# Altium schematic symbol library CON_DIVERSOS.SchLib: 77 symbols (part 4 of 4)
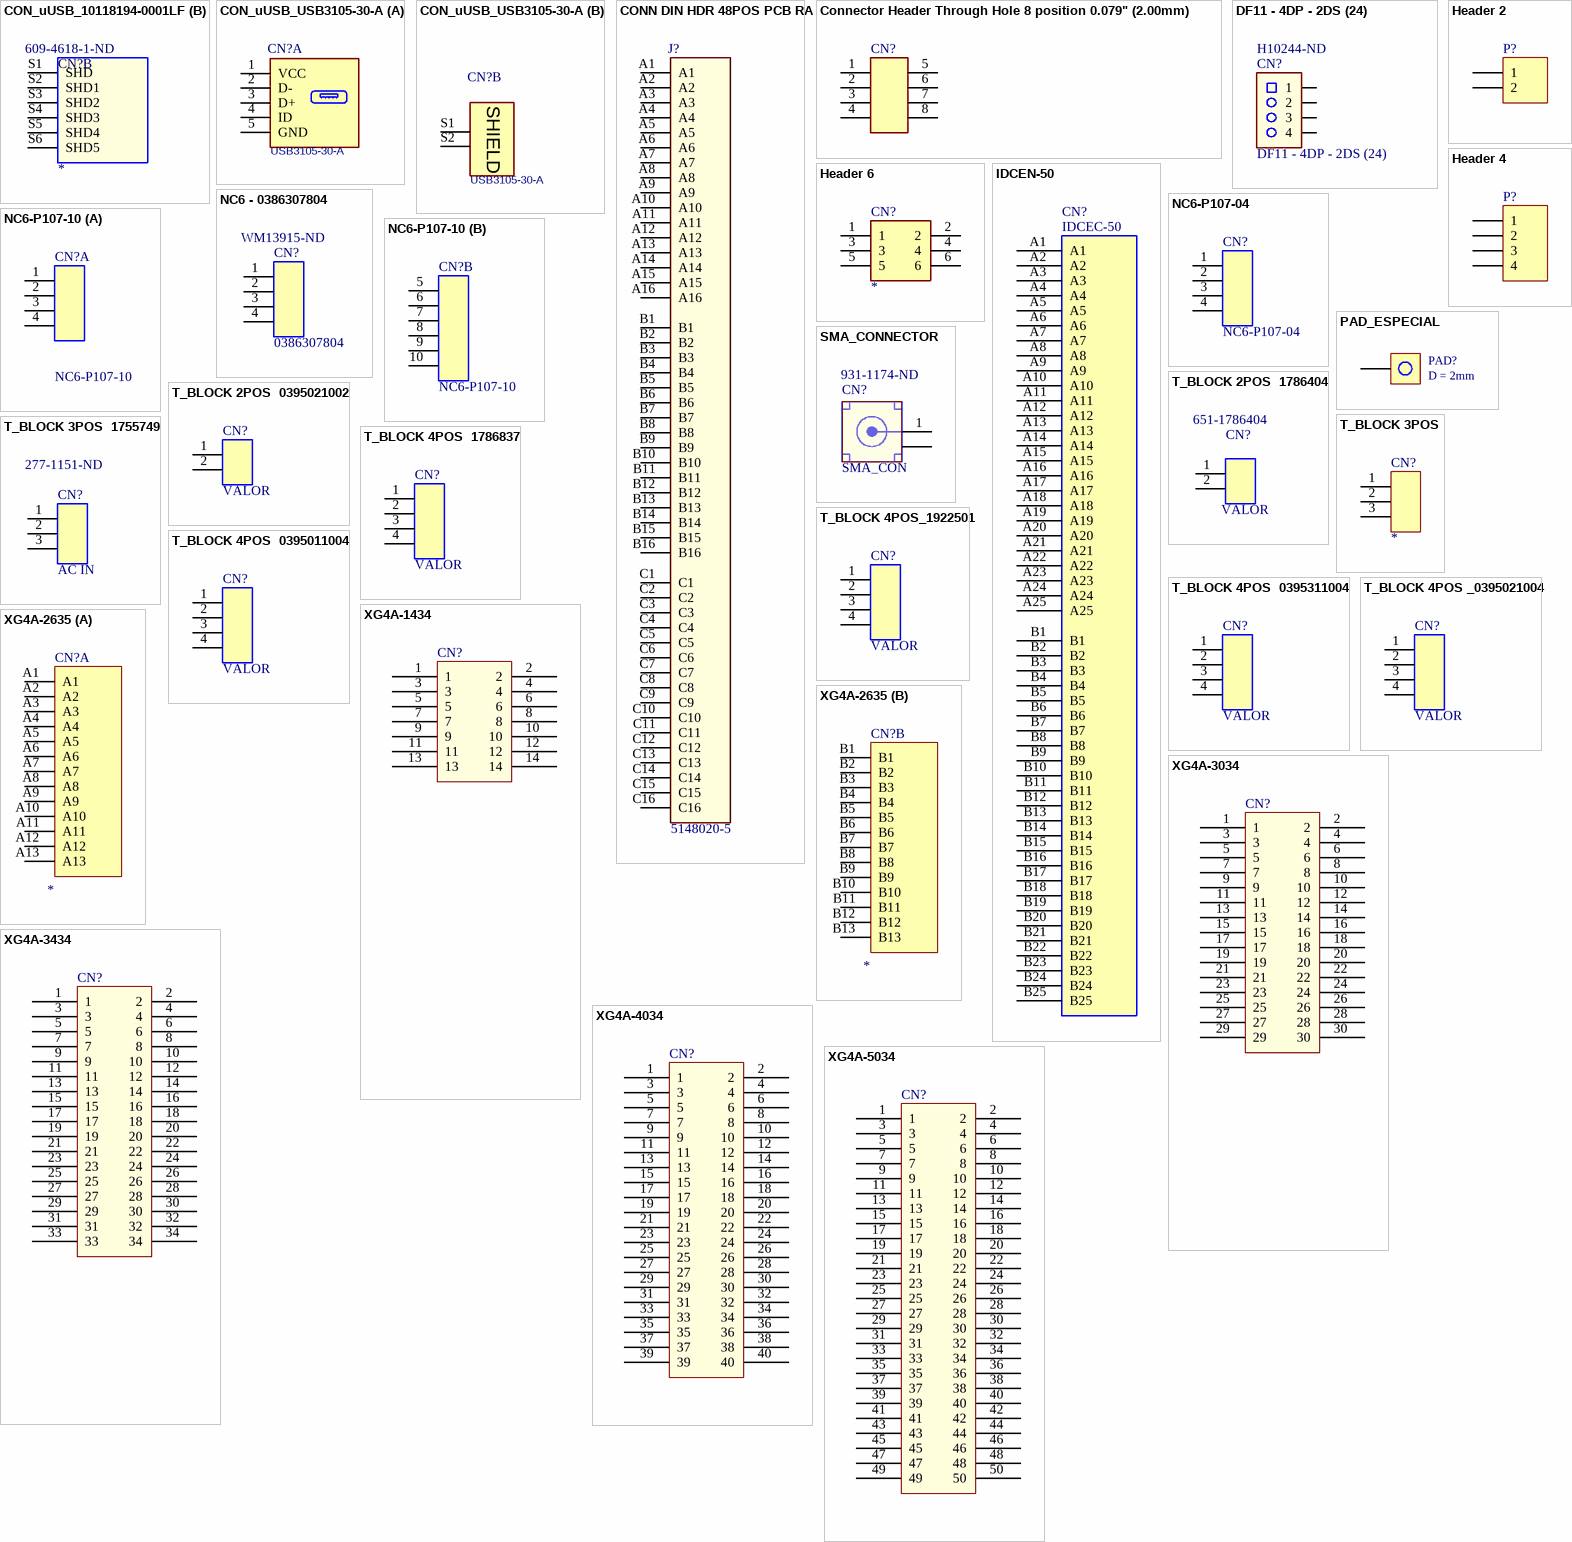
[diagram p8: symbols CON_uUSB_10118194-0001LF to XG4A-5034]

## XG4A-1434
designator CN?
Connector Header Through Hole, Right Angle 14 position 0.100" (2.54mm); MPN: XG4A-1434; Manufacturer: Omron; FABRICANTE: Omron Electronics Inc-EMC Div; VALUE: XG4A-1434; Connector Type: Male Pin; Current Rating: 3A; Number of Positions: 14; Voltage Rating: 300V; Insulation Resistance: 1GR; Contact Resistance: 20mR; Gender: Male; Row Spacing: 0.1inch; FOOTPRINT: XG4A-1434; ComponentLink1Description: LOJA; ComponentLink1URL: https://www.digikey.com/product-detail/en/omron-electronics-inc-emc-div/XG4A-3434/OR891-ND/1787163; ComponentLink2Description: DATASHEET; ComponentLink2URL: https://omronfs.omron.com/en_US/ecb/products/pdf/en-fcc.pdf; Supplier 1: Digi-Key; Supplier Part Number 1: OR882-ND; Manufacturer Part Number: XG4A-1434; Stock 1: 65; Pricing 1: 1=1,74000, 10=1,57500, 100=1,34970, 500=1,12472, 1000=0,96405, 5000=0,85479, 10000=0,83551 (USD); RoHS: Yes; Mount: Through Hole; Contact Plating: Gold; Contact Material: Brass; Housing Material: PBT; Color: Black; Min Operating Temperature: -55°C; Max Operating Temperature: 105°C; Orientation: Right Angle; Packaging: Bulk; Number of Rows: 2; Contact Gender: Male; Package Quantity: 80; Termination: Solder; Number of Contacts: 14; Max Voltage Rating (AC): 300V; Max Current Rating: 3A; Fastening Type: Latch; Pitch: 2.54mm; REACH SVHC: No SVHC; ComponentLink3URL: https://datasheet.ciiva.com/30197/xg4-0913-30197145.pdf?src-supplier=Onlinecomponents.com; ComponentLink3Description: https://datasheet.ciiva.com/30197/xg4-0913-30197145.pdf?src-supplier=Onlinecomponents.com; ComponentLink4URL: https://datasheet.ciiva.com/7092/en-xg4-7092133.pdf?src-supplier=Newark; ComponentLink4Description: https://datasheet.ciiva.com/7092/en-xg4-7092133.pdf?src-supplier=Newark
footprint XG4A-1434 (CONN HEADER R/A 14POS 2.54MM)
pins: 1, 2, 3, 4, 5, 6, 7, 8, 9, 10, 11, 12, 13, 14

## XG4A-2635
designator CN?
Headers & Wire Housings Plug ShortLock 26P RightAngle 1Polarize; Manufacturer: Omron; Manufacturer Part Number: XG4A-2635; Number of Positions: 26; Connector Type: Male Pin; Voltage Rating: 300V; Contact Resistance: 20mR; Current Rating: 3A; Insulation Resistance: 1GR; Pitch: 2.54mm; Row Spacing: 0.1inch; Supplier 1: Digi-Key; Supplier Part Number 1: Z6485-ND; Stock 1: 105; Pricing 1: 1=2,26000, 10=2,05300, 100=1,75940, 500=1,46616, 1000=1,25670, 5000=1,11427, 10000=1,08914 (USD); RoHS: Yes; Mount: Through Hole; Color: Black; Housing Material: PBT; Contact Plating: Gold; Min Operating Temperature: -55°C; Max Operating Temperature: 105°C; Termination: Solder; Number of Contacts: 26; Package Quantity: 60; Number of Rows: 2; Packaging: Bulk; Contact Gender: Male; Orientation: Right Angle; Max Voltage Rating (AC): 300V; Max Current Rating: 3A; Fastening Type: Latch; Radiation Hardening: No; ComponentLink1URL: https://datasheet.ciiva.com/30211/xg4-0913-30211358.pdf?src-supplier=Onlinecomponents.com; ComponentLink1Description: https://datasheet.ciiva.com/30211/xg4-0913-30211358.pdf?src-supplier=Onlinecomponents.com
footprint XG4A-2634 (Connector Header Through Hole, Right Angle 26 position 0.100" (2.54mm))
part A pins: A1, A2, A3, A4, A5, A6, A7, A8, A9, A10, A11, A12, A13
part B pins: B1, B2, B3, B4, B5, B6, B7, B8, B9, B10, B11, B12, B13

## XG4A-3034
designator CN?
Connector Header Through Hole, Right Angle 30 position 0.100" (2.54mm); MPN: XG4A-3434; Manufacturer: Omron; Manufacturer Part Number: XG4A-3034; FABRICANTE: Omron Electronics Inc-EMC Div; VALUE: XG4A-3434; Gender: Male; Contact Resistance: 20mR; Max Voltage Rating (AC): 300V; Max Current Rating: 3A; Connector Type: Male Pin; Number of Positions: 30; Insulation Resistance: 1GR; Row Spacing: 0.1inch; FOOTPRINT: XG4A-3434; ComponentLink1Description: LOJA; ComponentLink1URL: https://www.digikey.com/product-detail/en/omron-electronics-inc-emc-div/XG4A-3434/OR891-ND/1787163; ComponentLink2Description: DATASHEET; ComponentLink2URL: https://omronfs.omron.com/en_US/ecb/products/pdf/en-fcc.pdf; Supplier 1: Digi-Key; Supplier Part Number 1: OR889-ND; Stock 1: 998; Pricing 1: 1=2,47000, 10=2,24400, 100=1,92340, 500=1,60282, 1000=1,37385, 5000=1,21815, 10000=1,19067 (USD); RoHS: Yes; Mount: Through Hole; Color: Black; Contact Plating: Gold; Contact Material: Brass; Housing Material: PBT; Min Operating Temperature: -55°C; Max Operating Temperature: 105°C; Orientation: Right Angle; Package Quantity: 50; Number of Rows: 2; Packaging: Bulk; Contact Gender: Male; Current Rating: 3A; Voltage Rating: 300V; Termination: Solder; Number of Contacts: 30; Fastening Type: Latch; Pitch: 2.54mm; Radiation Hardening: No; REACH SVHC: No SVHC; ComponentLink3URL: https://datasheet.ciiva.com/16117/xg4-0110-16117817.pdf?src-supplier=Onlinecomponents.com; ComponentLink3Description: https://datasheet.ciiva.com/16117/xg4-0110-16117817.pdf?src-supplier=Onlinecomponents.com; ComponentLink4URL: https://datasheet.ciiva.com/7631/en-xg4-7631084.pdf?src-supplier=Element14; ComponentLink4Description: https://datasheet.ciiva.com/7631/en-xg4-7631084.pdf?src-supplier=Element14; ComponentLink5URL: https://datasheet.ciiva.com/30236/xg4-0110-30236973.pdf?src-supplier=Onlinecomponents.com; ComponentLink5Description: https://datasheet.ciiva.com/30236/xg4-0110-30236973.pdf?src-supplier=Onlinecomponents.com
footprint XG4A-3034 (CONN HEADER R/A 30POS 2.54MM)
pins: 1, 2, 3, 4, 5, 6, 7, 8, 9, 10, 11, 12, 13, 14, 15, 16, 17, 18, 19, 20, 21, 22, 23, 24, 25, 26, 27, 28, 29, 30

## XG4A-3434
designator CN?
Connector Header Through Hole, Right Angle 34 position 0.100" (2.54mm); MPN: XG4A-3434; Manufacturer: Omron; FABRICANTE: Omron Electronics Inc-EMC Div; VALUE: XG4A-3434; Number of Positions: 34; Connector Type: Male Pin; Current Rating: 3A; Voltage Rating: 300V; Contact Resistance: 20mR; Gender: Male; Insulation: Non-Insulated; Row Spacing: 0.1inch; FOOTPRINT: XG4A-3434; ComponentLink1Description: LOJA; ComponentLink1URL: https://www.digikey.com/product-detail/en/omron-electronics-inc-emc-div/XG4A-3434/OR891-ND/1787163; ComponentLink2Description: DATASHEET; ComponentLink2URL: https://omronfs.omron.com/en_US/ecb/products/pdf/en-fcc.pdf; Supplier 1: Digi-Key; Supplier Part Number 1: OR891-ND; Manufacturer Part Number: XG4A-3434; Stock 1: 702; Pricing 1: 1=2,56000, 10=2,46000, 100=2,04980, 500=1,74234, 1000=1,48611, 5000=1,33237 (USD); RoHS: Yes; Mount: Through Hole; Color: Black; Contact Plating: Gold; Contact Material: Brass; Housing Material: PBT; Min Operating Temperature: -55°C; Max Operating Temperature: 105°C; Termination: Solder; Number of Contacts: 34; Package Quantity: 50; Number of Rows: 2; Packaging: Bulk; Contact Gender: Male; Orientation: Right Angle; Max Voltage Rating (AC): 300V; Max Current Rating: 3A; Fastening Type: Latch; Pitch: 2.54mm; Radiation Hardening: No; Lead Free: Lead Free; REACH SVHC: No SVHC; ComponentLink3URL: https://datasheet.ciiva.com/30178/xg4-0110-30178838.pdf?src-supplier=Onlinecomponents.com; ComponentLink3Description: https://datasheet.ciiva.com/30178/xg4-0110-30178838.pdf?src-supplier=Onlinecomponents.com; ComponentLink4URL: https://datasheet.ciiva.com/16117/xg4-0110-16117880.pdf?src-supplier=Onlinecomponents.com; ComponentLink4Description: https://datasheet.ciiva.com/16117/xg4-0110-16117880.pdf?src-supplier=Onlinecomponents.com; ComponentLink5URL: https://datasheet.ciiva.com/7631/en-xg4-7631087.pdf?src-supplier=Element14; ComponentLink5Description: https://datasheet.ciiva.com/7631/en-xg4-7631087.pdf?src-supplier=Element14
footprint XG4A-3434 (CONN HEADER R/A 34POS 2.54MM)
pins: 1, 2, 3, 4, 5, 6, 7, 8, 9, 10, 11, 12, 13, 14, 15, 16, 17, 18, 19, 20, 21, 22, 23, 24, 25, 26, 27, 28, 29, 30, 31, 32, 33, 34

## XG4A-4034
designator CN?
Connector Header Through Hole, Right Angle 40 position 0.100" (2.54mm); MPN: XG4A-4034; Manufacturer: Omron; FABRICANTE: Omron Electronics Inc-EMC Div; VALUE: XG4A-4034; Number of Positions: 40; Max Voltage Rating (AC): 300V; Max Current Rating: 3A; Contact Resistance: 20mR; Gender: Male; Connector Type: Male Pin; Insulation Resistance: 1GR; Row Spacing: 0.1inch; FOOTPRINT: XG4A-4034; Supplier 1: Digi-Key; Supplier Part Number 1: OR893-ND; Manufacturer Part Number: XG4A-4034; Stock 1: 9014; Pricing 1: 1=2,51000, 10=2,41400, 100=2,01160, 500=1,70986, 1000=1,45841, 5000=1,30754 (USD); RoHS: Yes; Mount: Through Hole; Housing Color: Black; Color: Black; Contact Material: Brass; Contact Plating: Gold; Housing Material: Polybutylene; Min Operating Temperature: -55°C; Max Operating Temperature: 105°C; Termination: Solder; Number of Contacts: 40; Orientation: Right Angle; Package Quantity: 40; Number of Rows: 2; Packaging: Bulk; Contact Gender: Male; Current Rating: 3A; Voltage Rating: 300V; Fastening Type: Latch; Length: 70.1mm; Pitch: 2.54mm; Depth: 27mm; Radiation Hardening: No; REACH SVHC: No SVHC; ComponentLink1URL: http://www.alliedelec.com/images/products/datasheets/bm/OMRON_ELECTRONICS_INC/70667210.pdf?src-supplier=Allied+Electronics; ComponentLink1Description: http://www.alliedelec.com/images/products/datasheets/bm/OMRON_ELECTRONICS_INC/70667210.pdf?src-supplier=Allied+Electronics; ComponentLink2URL: http://www.mouser.com/ds/2/307/en-xg4a_sr-226040.pdf?src-supplier=Mouser; ComponentLink2Description: http://www.mouser.com/ds/2/307/en-xg4a_sr-226040.pdf?src-supplier=Mouser; ComponentLink3URL: http://www.todaycomponents.com/media/datasheet/XG4E-3032.pdf?src-supplier=Today+Components; ComponentLink3Description: http://www.todaycomponents.com/media/datasheet/XG4E-3032.pdf?src-supplier=Today+Components; ComponentLink4URL: http://www.onlinecomponents.com/productFiles/mf-OM/xg4_0110.pdf?src-supplier=Onlinecomponents.com; ComponentLink4Description: http://www.onlinecomponents.com/productFiles/mf-OM/xg4_0110.pdf?src-supplier=Onlinecomponents.com; ComponentLink5URL: http://components.arrow.com/part/dataview/43930308S139812N4302?src-supplier=Arrow; ComponentLink5Description: http://components.arrow.com/part/dataview/43930308S139812N4302?src-supplier=Arrow; ComponentLink6URL: http://omronfs.omron.com/en_US/ecb/products/pdf/en-fcc.pdf?src-supplier=Digi-Key; ComponentLink6Description: http://omronfs.omron.com/en_US/ecb/products/pdf/en-fcc.pdf?src-supplier=Digi-Key; ComponentLink7URL: http://www.components.omron.com/components/web/PDFLIB.nsf/0/1D642D622E2FDCF685257201007DD590/$file/XG4_1110.pdf?src-supplier=Avnet; ComponentLink7Description: http://www.components.omron.com/components/web/PDFLIB.nsf/0/1D642D622E2FDCF685257201007DD590/$file/XG4_1110.pdf?src-supplier=Avnet
footprint XG4A-4034 (CONN HEADER R/A 40POS 2.54MM)
pins: 1, 2, 3, 4, 5, 6, 7, 8, 9, 10, 11, 12, 13, 14, 15, 16, 17, 18, 19, 20, 21, 22, 23, 24, 25, 26, 27, 28, 29, 30, 31, 32, 33, 34, 35, 36, 37, 38, 39, 40

## XG4A-5034
designator CN?
Connector Header Through Hole, Right Angle 50 position 0.100" (2.54mm); MPN: XG4A-5034; Manufacturer: Omron; FABRICANTE: Omron Electronics Inc-EMC Div; VALUE: XG4A-5034; Connector Type: Male Pin; Max Voltage Rating (AC): 300V; Max Current Rating: 3A; Number of Positions: 50; Contact Resistance: 20mR; Gender: Male; Row Spacing: 0.1inch; FOOTPRINT: XG4A-5034; Supplier 1: Digi-Key; Supplier Part Number 1: OR962-ND; Manufacturer Part Number: XG4A-5034; Stock 1: 838; Pricing 1: 1=4,04000, 10=3,87900, 100=3,23220, 500=2,74738, 1000=2,34335, 5000=2,10093 (USD); RoHS: Yes; Mount: Through Hole; Color: Black; Contact Plating: Gold; Contact Material: Brass; Housing Material: PBT; Min Operating Temperature: -55°C; Max Operating Temperature: 105°C; Package Quantity: 30; Number of Rows: 2; Orientation: Right Angle; Packaging: Bulk; Termination: Solder; Number of Contacts: 50; Contact Gender: Male; Current Rating: 3A; Voltage Rating: 300V; Fastening Type: Latch; Pitch: 2.54mm; Radiation Hardening: No; REACH SVHC: No SVHC; ComponentLink1URL: https://datasheet.ciiva.com/16117/xg4-0110-16117854.pdf?src-supplier=Onlinecomponents.com; ComponentLink1Description: https://datasheet.ciiva.com/16117/xg4-0110-16117854.pdf?src-supplier=Onlinecomponents.com; ComponentLink2URL: https://datasheet.ciiva.com/7092/en-xg4-7092159.pdf?src-supplier=Newark; ComponentLink2Description: https://datasheet.ciiva.com/7092/en-xg4-7092159.pdf?src-supplier=Newark; ComponentLink3URL: https://datasheet.ciiva.com/30094/xg4-0110-30094072.pdf?src-supplier=Onlinecomponents.com; ComponentLink3Description: https://datasheet.ciiva.com/30094/xg4-0110-30094072.pdf?src-supplier=Onlinecomponents.com
footprint XG4A-5034 (CONN HEADER R/A 50POS 2.54MM)
pins: 1, 2, 3, 4, 5, 6, 7, 8, 9, 10, 11, 12, 13, 14, 15, 16, 17, 18, 19, 20, 21, 22, 23, 24, 25, 26, 27, 28, 29, 30, 31, 32, 33, 34, 35, 36, 37, 38, 39, 40, 41, 42, 43, 44, 45, 46, 47, 48, 49, 50